# Altium footprint library Diodes.PcbLib: 6 footprints
Each footprint in its own frame and in the unit in brackets; x right, y up, seen from the top. Pads: shape width x height; smd on the part's side, far side on the other; paste and mask are expansions set on the pad; w line width, h text height; cw(c..) or ccw(c..) is an arc to the next point about the centre after c.
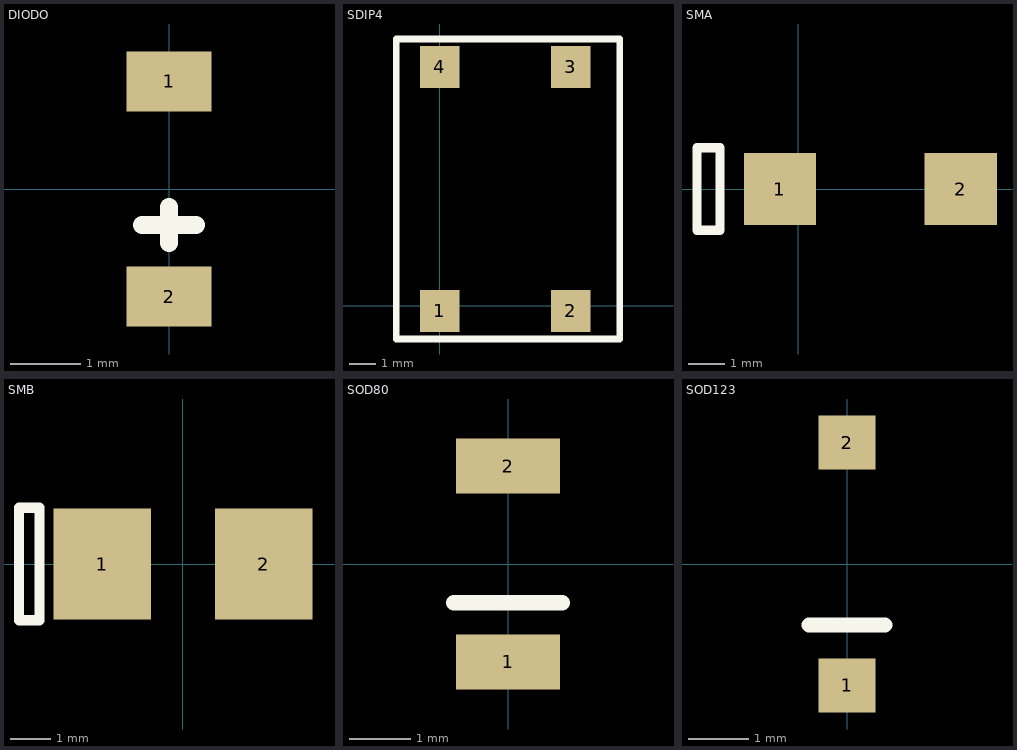
[diagram p0: the footprints below, top view; thin cyan lines are the x and y axes]

## DIODO [mm]
pads (2):
  rect 1.2x0.85 smd: 1(0,1.525) 2(0,-1.525)
Top Overlay:
  lines w0.254: -0.381,-0.508 0.381,-0.508 ; 0,-0.762 0,-0.254
3D body: height 0.95, standoff 0, extent -0.825,-1.8 0.825,1.8

## SDIP4 [mm]
pads (4):
  rect 1.5x1.6 smd: 1(0,-0.2) 2(5,-0.2) 3(5,9.1) 4(0,9.1)
Top Overlay:
  lines w0.254: -1.651,-1.27 6.858,-1.27 6.858,10.16 -1.651,10.16 -1.651,-1.27
3D body: height 3.63, standoff 0, extent -1.71,-0.635 6.79,9.365

## SMA [mm] "Diode SMA"
pads (2):
  rect 2x2 smd: 1(-0.5,0) 2(4.5,0)
Top Overlay:
  lines w0.254: -2.794,-1.143 -2.794,1.143 -2.159,1.143 -2.159,-1.143 -2.794,-1.143
3D body: height 2.29, standoff 0.01, extent -0.711,-1.397 4.775,1.397

## SMB [mil] "Diode SMB"
pads (2):
  rect 95x108 smd: 1(-78.74,0) 2(78.74,0)
Top Overlay:
  lines w10: -160,-55 -140,-55 -140,55 -160,55 -160,-55
3D body: height 102.18, standoff -1.82, extent -110,-77.75 110,77.75

## SOD80 [mm]
pads (2):
  rect 1.7x0.9 smd: 1(0,-1.6) 2(0,1.6)
Top Overlay:
  lines w0.254: -0.889,-0.635 0.889,-0.635
3D body: height 1.6, standoff 0, extent -0.798,-1.88 0.798,1.82

## SOD123 [mm]
pads (2):
  rect 0.95x0.9 smd: 1(0,-2.025) 2(0,2.025)
Top Overlay:
  lines w0.254: -0.635,-1.016 0.635,-1.016
3D body: height 1.18, standoff 0, extent -0.9,-1.95 0.9,1.95